# Altium integrated library 1N4148W.IntLib: 1 symbol
Pins are listed as number, name and electrical type; pins without a type are passive.

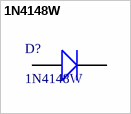
[diagram p0: symbol 1N4148W]

## 1N4148W
designator D?
Diode; Manufacturer_Name: Micro Commercial Components (MCC); Manufacturer_Part_Number: 1N4148W-TP; Datasheet Link: https://componentsearchengine.com/Datasheets/2/1N4148W-TP.pdf; Height: 1.35mm; Mouser Part Number: 833-1N4148W-TP; Mouser Price/Stock: https://www.mouser.com/Search/Refine.aspx?Keyword=833-1N4148W-TP
footprint SODFL370X110-2N (SODFL, 2-Leads, Body 1,55x3,70mm, IPC Medium Density)
pins: 1 K, 2 A